# Altium footprint library arduinoUno.PcbLib: 27 footprints (part 2 of 2)
Each footprint in its own frame and in the unit in brackets; x right, y up, seen from the top. Pads: shape width x height; smd on the part's side, far side on the other; paste and mask are expansions set on the pad; w line width, h text height; cw(c..) or ccw(c..) is an arc to the next point about the centre after c.
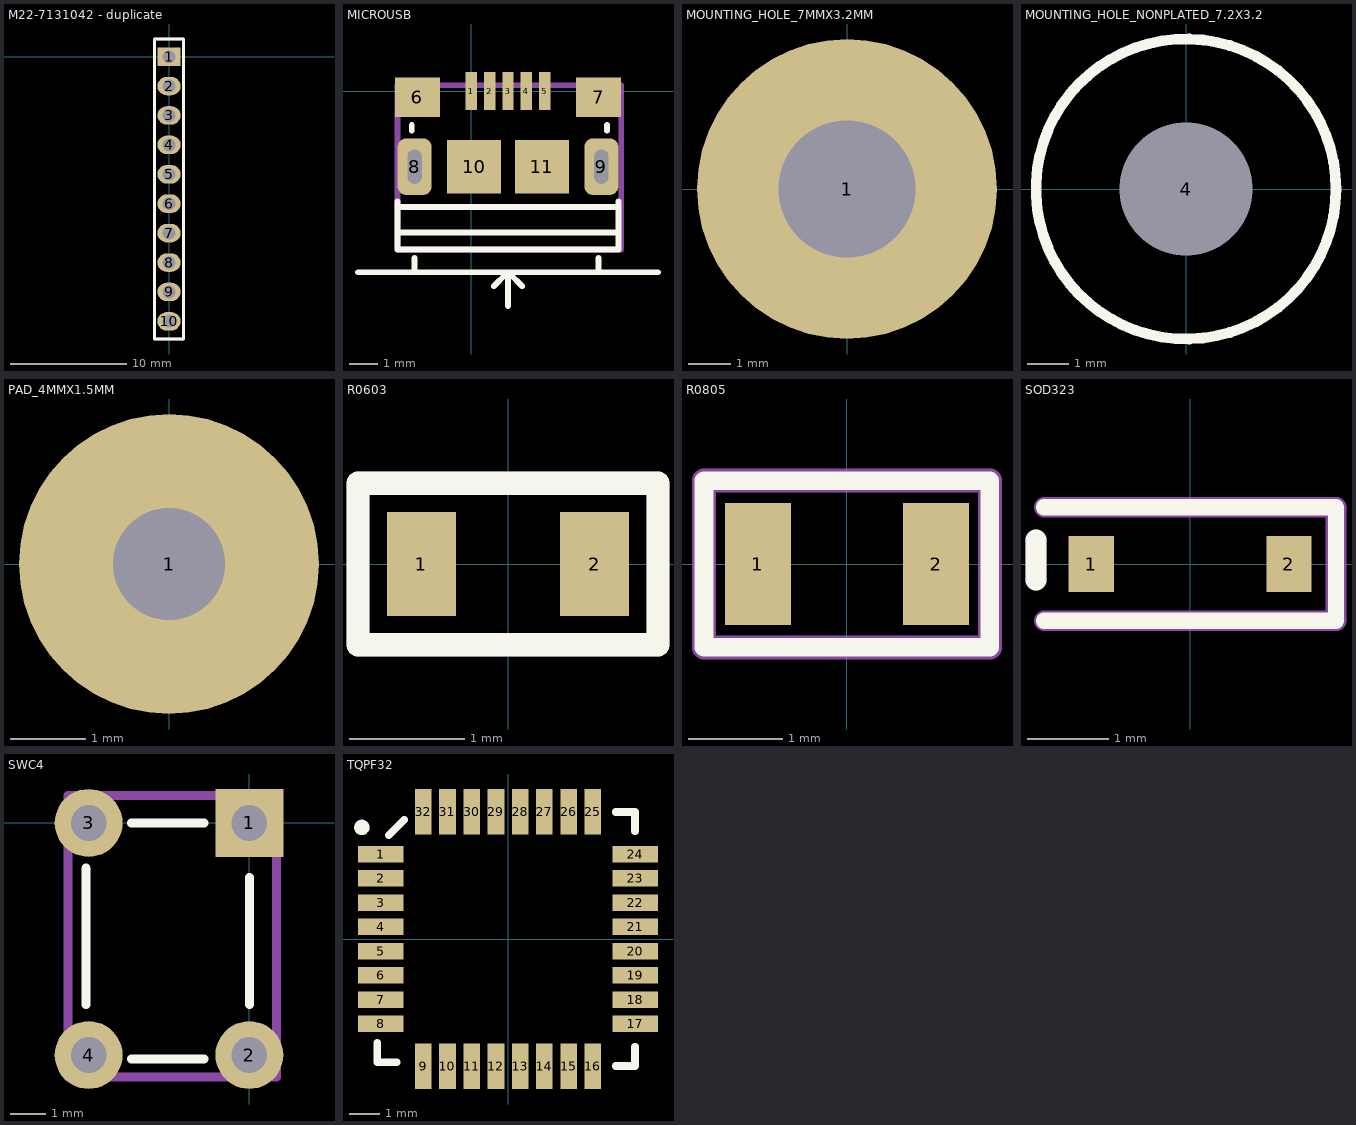
[diagram p1: the footprints below, top view; thin cyan lines are the x and y axes]

## M22-7131042 [mm]

## M22-7131042 - duplicate [mm]
pads (10):
  rect 2x1.6 hole 1.1: 1(0,0)
  oval 2x1.6 hole 1.1: 2(0,-2.54) 3(0,-5.08) 4(0,-7.62) 5(0,-10.16) 6(0,-12.7) 7(0,-15.24) 8(0,-17.78) 9(0,-20.32) 10(0,-22.86)
Top Overlay:
  lines w0.254: -1.27,-24.384 1.27,-24.384 1.27,1.524 -1.27,1.524 -1.27,-24.384
Mechanical 1:
  circle w0.254: c-0.254,0 r0.359
  lines w0.254: -1.27,-24.384 1.27,-24.384 1.27,1.524 -1.27,1.524 -1.27,-24.384
  text ".Designator" at 0.762,-19.558 h0.76
3D body "m20-7821046_asm.stp": height 8.51, standoff -2.99, extent -1.25,-24.33 1.25,1.47

## MICROUSB [mm]
pads (11):
  rect 0.4x1.35 smd mask+0.05: 1(0,0) 2(0.65,0) 3(1.3,0) 4(1.95,0) 5(2.6,0)
  rect 1.6x1.4 smd: 6(-1.9,-0.225) 7(4.5,-0.225)
  rrect50% 1.2x2 hole 0.5 slot 1.2 at 90 deg: 8(-2,-2.675) 9(4.6,-2.675)
  rect 1.9x1.9 smd: 10(0.1,-2.675) 11(2.5,-2.675)
Top Overlay:
  lines w0.203: -4,-6.4 6.6,-6.4 ; -2.6,-3.9 -2.6,-5.6 5.2,-5.6 5.2,-3.9 ; -2.1,-1.4 -2.1,-1.2 ; -2,-6.4 -2,-5.9 ; -2,-4.1 -2.5,-4.1 5.2,-4.1 ; 0.8,-6.9 1.25,-6.45 ; 1.2,-6.4 1.3,-6.4 ; 1.25,-6.4 1.25,-6.45 ; 1.3,-7.6 1.3,-6.4 ; 1.3,-5 -2.6,-5 5.2,-5 ; 1.8,-6.9 1.35,-6.45 1.25,-6.45 ; 4.5,-6.4 4.5,-5.9 ; 4.8,-1.4 4.8,-1.2 ; 1.3,-6.4 1.3,-6.4
Mechanical 1:
  lines w0.203: -2.6,-5.6 5.3,-5.6 5.3,0.2 -2.6,0.2 -2.6,-5.6
  text ".Designator" at -0.146,-3.192 h0.76
3D body "10118193-0001lfc.stp": height 2.88, standoff -0.92, extent -2.603,-5.584 5.253,0.2

## MOUNTING_HOLE_7MMX3.2MM [mm]
pads (1):
  round 7 hole 3.2: 1(0,0)

## MOUNTING_HOLE_NONPLATED_7.2X3.2 [mil]
pads (1):
  round 60 hole 125.98 unplated: 4(0,0)
Top Overlay:
  circle w10: c0,0 r141.73

## PAD_4MMX1.5MM [mm]
pads (1):
  round 4 hole 1.5: 1(0,0)

## R0603 [mm]
pads (2):
  rect 0.6x0.9 smd: 1(-0.75,0) 2(0.75,0)
Top Overlay:
  lines w0.2: -1.3,-0.7 1.3,-0.7 1.3,0.7 -1.3,0.7 -1.3,-0.7
Mechanical 1:
  lines w0.203: -1.3,-0.7 1.3,-0.7 1.3,0.7 -1.3,0.7 -1.3,-0.7
  text ".Designator" at -0.446,-0.792 h0.76
3D body "R0603.step": height 0.85, standoff 0.01, extent -0.8,-0.4 0.8,0.4

## R0805 [mm]
pads (2):
  rect 0.7x1.3 smd: 1(-0.95,0) 2(0.95,0)
Top Overlay:
  lines w0.2: -1.524,-0.889 1.524,-0.889 1.524,0.889 -1.524,0.889 -1.524,-0.889
Mechanical 1:
  lines w0.254: -1.524,-0.889 1.524,-0.889 1.524,0.889 -1.524,0.889 -1.524,-0.889
  text ".Designator" at -0.762,-0.381 h0.76
3D body "CRCW0805680RFKTA.stp": height 0.5, standoff 0, extent -1.025,-0.625 1.025,0.625

## SOD323 [mil]
pads (2):
  rect 22x27 smd: 1(-48,0) 2(48,0)
Top Overlay:
  lines w7.87: -70.87,-27.56 70.87,-27.56 70.87,27.56 -70.87,27.56
  lines w10: -74.8,-7.87 -74.8,11.81
Mechanical 1:
  lines w10: -74.8,-7.87 -74.8,11.81 ; -70.87,-27.56 70.87,-27.56 70.87,27.56 -70.87,27.56
  text ".Designator" at -56.93,-19.37 h30
3D body "User Library-SOD-323.step": height 43.41, standoff 0, extent -51.17,-26.57 51.19,26.58

## SWC4 [mm]
pads (4):
  rect 1.9x1.9 hole 1: 1(0,0)
  round 1.9 hole 1: 2(0,-6.5) 3(-4.5,0) 4(-4.5,-6.5)
Top Overlay:
  lines w0.254: -4.572,-5.08 -4.572,-1.27 ; -3.302,-6.604 -1.27,-6.604 ; -3.302,0 -1.27,0 ; 0,-5.08 0,-1.524
Mechanical 1:
  circle w0.254: c0,0 r0.254
  lines w0.254: -5.08,-7.112 0.762,-7.112 0.762,0.762 -5.08,0.762 -5.08,0.508 -5.08,-7.112
  text ".Designator" at -1.778,-3.556 h0.76
3D body "User Library-FSM4JH(1825910-6).STEP": height 5, standoff -3.51, extent -5.245,-7.15 0.745,0.648

## TQPF32 [mm]
pads (32):
  rect 1.5x0.55 smd mask+0.015: 1(-4.2,2.8) 2(-4.2,2) 3(-4.2,1.2) 4(-4.2,0.4) 5(-4.2,-0.4) 6(-4.2,-1.2) 7(-4.2,-2) 8(-4.2,-2.8) 17(4.2,-2.8) 18(4.2,-2) 19(4.2,-1.2) 20(4.2,-0.4) 21(4.2,0.4) 22(4.2,1.2) 23(4.2,2) 24(4.2,2.8)
  rect 0.55x1.5 smd mask+0.015: 9(-2.8,-4.2) 10(-2,-4.2) 11(-1.2,-4.2) 12(-0.4,-4.2) 13(0.4,-4.2) 14(1.2,-4.2) 15(2,-4.2) 16(2.8,-4.2) 25(2.8,4.2) 26(2,4.2) 27(1.2,4.2) 28(0.4,4.2) 29(-0.4,4.2) 30(-1.2,4.2) 31(-2,4.2) 32(-2.8,4.2)
Top Overlay:
  circle w0.254: c-4.826,3.683 r0.127
  lines w0.254: -4.318,-3.429 -4.318,-3.81 -4.318,-4.064 -3.683,-4.064 ; -3.937,3.429 -3.429,3.937 ; 3.556,-4.191 4.191,-4.191 4.191,-3.937 4.191,-3.556 ; 3.556,4.191 4.191,4.191 4.191,3.937 4.191,3.556
Mechanical 1:
  text ".Designator" at 0.554,0.008 h0.76
3D body "ATMEGA1608-AU.stp": height 1.2, standoff 0, extent -4.5,-4.5 4.5,4.5